# Altium schematic symbol library CH340.SchLib: 1 symbol
Pins are listed as number, name and electrical type; pins without a type are passive.

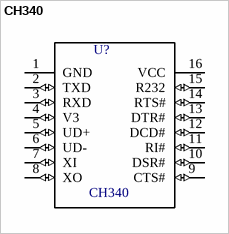
[diagram p0: symbol CH340]

## CH340
designator U?
Eaton / Cutler Hammer CH340 Circuit Breaker 40 Amp 240 Volt AC 3-Pole Plug-On Mount; MF: Eaton / Cutler Hammer; Package: None; Availability: Bad; MP: CH340; Price: 248.29 USD; Value: *
footprint SO16
pins: 1 GND (power), 2 TXD (io), 3 RXD (io), 4 V3 (io), 5 UD+ (io), 6 UD- (io), 7 XI (io), 8 XO (io), 9 CTS# (io), 10 DSR# (io), 11 RI# (io), 12 DCD# (io), 13 DTR# (io), 14 RTS# (io), 15 R232 (io), 16 VCC (power)